# Altium schematic symbol library ST-3-56.SchLib: 1 symbol
Pins are listed as number, name and electrical type; pins without a type are passive.

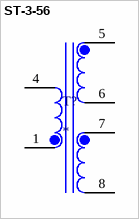
[diagram p0: symbol ST-3-56]

## ST-3-56
designator T?
Split Bobbin Low Power Transformer | 2.4VA Power | 115V Input | 10VCT Output Series; MP: ST-3-56; Package: None; Price: None; Value: *; Availability: Unavailable
footprint flyback tranformer
pins: 1, 4, 5, 6, 7, 8